# EAGLE library part CONNECTOR-MICRO-SD (library RelayBoard)
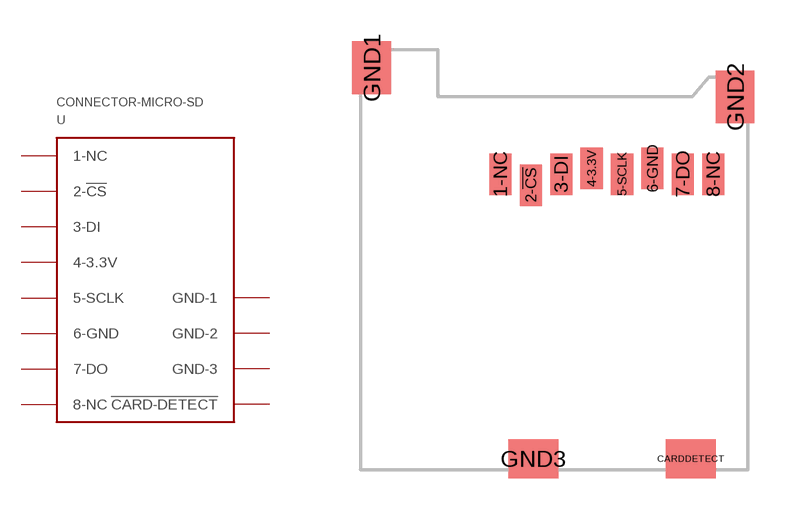
[diagram p5: symbol with the pads of CON-MICRO-SD-AMPHENOL; footprint CON-MICRO-SD-AMPHENOL]

Designator prefix -

## CONNECTOR-MICRO-SD  [CON-MICRO-SD-AMPHENOL]
1-NC  1-NC  oc
2-!CS  2-!CS  in
3-DI  3-DI  in
4-3.3V  4-3.3V  pwr
5-SCLK  5-SCLK  in
6-GND  6-GND  pwr
7-DO  7-DO  out
8-NC  8-NC  oc
CARDDETECT  !CARD-DETECT  out
GND1  GND-1  pwr
GND2  GND-2  pwr
GND3  GND-3  pwr

## Footprint CON-MICRO-SD-AMPHENOL (pad centres in mm)
https://www.amphenolcanada.com/ProductSearch/drawings/AC/10100660686.pdf
smd 0.8 x 1.5: 1-NC 5.06,10.7; 2-!CS 6.16,10.3; 3-DI 7.26,10.7; 4-3.3V 8.36,10.9; 5-SCLK 9.46,10.7; 6-GND 10.56,10.9; 7-DO 11.66,10.7; 8-NC 12.76,10.7
smd 1.8 x 1.4: CARDDETECT 11.95,0.4; GND3 6.25,0.4
smd 1.4 x 1.9: GND1 0.4,14.55; GND2 13.55,13.5